# Altium footprint library Parts.PcbLib: 7 footprints
Each footprint in its own frame and in the unit in brackets; x right, y up, seen from the top. Pads: shape width x height; smd on the part's side, far side on the other; paste and mask are expansions set on the pad; w line width, h text height; cw(c..) or ccw(c..) is an arc to the next point about the centre after c.
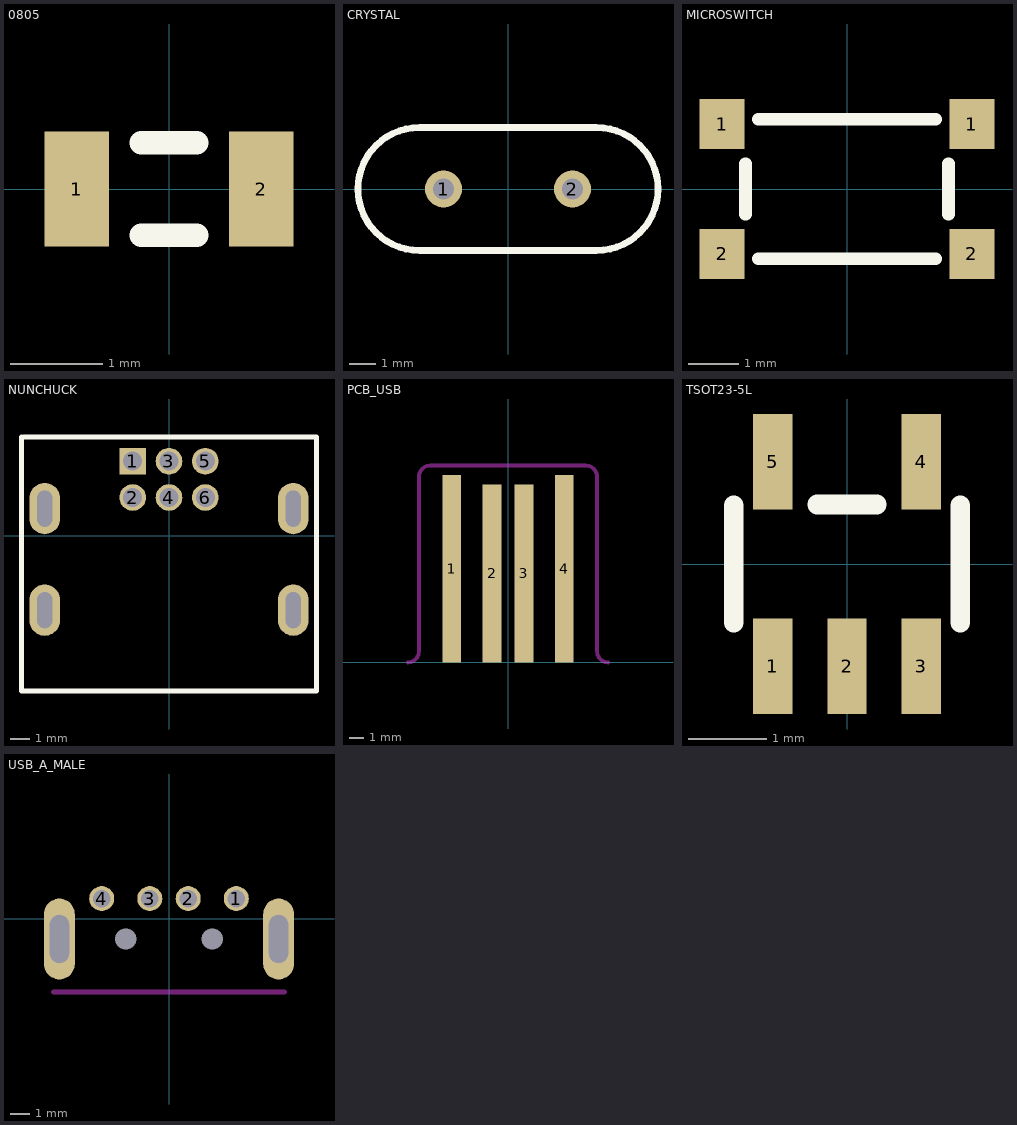
[diagram p0: the footprints below, top view; thin cyan lines are the x and y axes]

## 0805 [mm]
pads (2):
  rect 0.7x1.25 smd: 1(-1,0) 2(1,0)
Top Overlay:
  lines w0.254: -0.3,-0.5 0.3,-0.5 ; -0.3,0.5 0.3,0.5
3D body: height 0.8, standoff 0, extent -1,-0.625 1,0.625

## CRYSTAL [mm]
pads (2):
  round 1.4 hole 0.8: 1(-2.44,0) 2(2.44,0)
Top Overlay:
  lines w0.254: -3.35,-2.326 cw(c-3.35,0) -3.35,2.326 3.35,2.325 cw(c3.35,0) 3.35,-2.326 -3.35,-2.325
3D body: height 0.4, standoff 0, extent -5.735,-2.32 -1.104,2.321
3D body: height 3.6, standoff 0, extent -5.264,-1.846 -1.579,1.847
3D body: height 3.6, standoff 0, extent 1.594,-1.846 5.279,1.847
3D body: height 3.6, standoff 0, extent -3.422,-1.846 3.436,1.847
3D body: height 0.4, standoff 0, extent 1.122,-2.32 5.754,2.321
3D body: height 0.4, standoff 0, extent -3.42,-2.32 3.438,2.321

## MICROSWITCH [mm]
pads (4):
  rect 0.9x1 smd: 1(-2.5,1.3) 1(2.5,1.3) 2(-2.5,-1.3) 2(2.5,-1.3)
Top Overlay:
  lines w0.254: -2.032,-0.508 -2.032,0.508 ; -1.778,-1.397 1.778,-1.397 ; -1.778,1.397 1.778,1.397 ; 2.032,-0.508 2.032,0.508
3D body: height 1.4, standoff 0, extent -2.1,-1.4 2.1,1.4
3D body: height 2.5, standoff 0, extent -0.449,-0.703 0.955,0.704
3D body: height 2.5, standoff 0, extent -0.949,-0.704 0.455,0.704
3D body: height 2.5, standoff 0, extent -0.799,-0.803 0.805,0.803

## NUNCHUCK [mm]
pads (10):
  rect 1.4x1.4 hole 1: 1(-1.905,3.91)
  round 1.4 hole 1: 2(-1.905,2.005) 3(0,3.91) 4(0,2.005) 5(1.905,3.91) 6(1.905,2.005)
  oval 1.6x2.7 hole 0.8 slot 1.9 at 90 deg: ""(-6.528,-3.91) ""(-6.528,1.424) ""(6.528,1.424) ""(6.528,-3.91)
Top Overlay:
  lines w0.254: -7.747,5.18 -7.747,-8.155 7.747,-8.155 7.747,5.18 -7.62,5.18
Bottom Overlay:
  region: -1.905,0.608 -2.667,-0.154 -2.667,0.608
  lines w0.254: -2.667,-2.694 -2.667,0.608 -2.413,0.608 2.667,0.608 2.667,-2.694 -2.667,-2.694
  text "5" at 2.286,-0.789 h1.02
  text "3" at 0.381,-0.789 h1.02
  text "1" at -1.524,-0.789 h1.02
  text "6" at 2.286,-2.44 h1.02
  text "4" at 0.381,-2.44 h1.02
  text "2" at -1.524,-2.44 h1.02
3D body: height 8.4, standoff -1.84, extent -7.391,-8.18 7.392,4.52

## PCB_USB [mil]
pads (4):
  rect 50x500 smd: 1(-150,250) 4(150,250)
  rect 50x475 smd: 2(-42.5,237.5) 3(42.5,237.5)
Keep-Out Layer:
  lines w10: -267.5,0 ccw(c-267.5,30) -237.5,30 -237.5,495 cw(c-207.5,495) -207.5,525 207.5,525 cw(c207.5,495) 237.5,495 237.5,30 ccw(c267.5,30) 267.5,0

## TSOT23-5L [mm]
pads (5):
  rect 0.5x1.22 smd: 1(-0.95,-1.31) 2(0,-1.31) 3(0.95,-1.31) 4(0.95,1.31) 5(-0.95,1.31)
Top Overlay:
  lines w0.254: -1.45,-0.75 -1.45,0.75 ; -0.381,0.762 0.381,0.762 ; 1.45,-0.75 1.45,0.75
3D body: height 0.9, standoff 0, extent -1.45,-0.75 1.45,0.75

## USB_A_MALE [mm]
pads (8):
  round 1.3 hole 0.92: 1(3.5,1.05) 2(1,1.05) 3(-1,1.05) 4(-3.5,1.05)
  oval 1.6x4.2 hole 1 slot 2.5 at 90 deg: ""(-5.7,-1.05) ""(5.7,-1.05)
  round 0 hole 1.1 unplated: ""(-2.25,-1.05) ""(2.25,-1.05)
Keep-Out Layer:
  lines w0.254: -6,-3.8 6,-3.8
3D body: height 3.09, standoff -2.88, extent -6.348,-18.85 6.348,1.175